# Altium integrated library buzzer.IntLib: 1 symbol
Pins are listed as number, name and electrical type; pins without a type are passive.

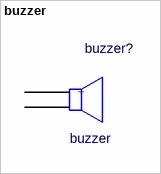
[diagram p0: symbol buzzer]

## buzzer
designator buzzer?
footprint BUZZER
pins: 1 +, 2 -